# Altium footprint library ATMEGA328P-AU.PcbLib: 3 footprints
Each footprint in its own frame and in the unit in brackets; x right, y up, seen from the top. Pads: shape width x height; smd on the part's side, far side on the other; paste and mask are expansions set on the pad; w line width, h text height; cw(c..) or ccw(c..) is an arc to the next point about the centre after c.
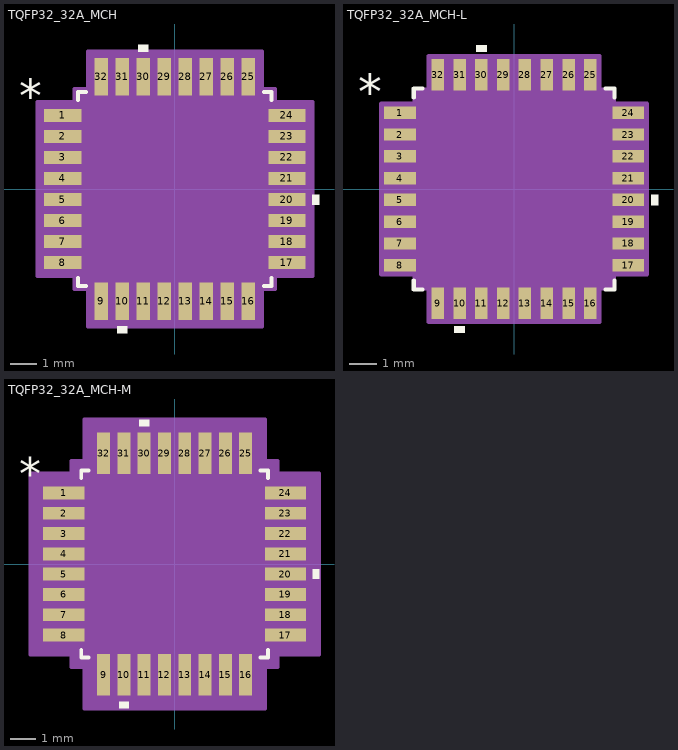
[diagram p0: the footprints below, top view; thin cyan lines are the x and y axes]

## TQFP32_32A_MCH [mil]
pads (32):
  rect 56x20 smd paste+0 mask+0: 1(-168,110.24) 2(-168,78.74) 3(-168,47.24) 4(-168,15.75) 5(-168,-15.75) 6(-168,-47.24) 7(-168,-78.74) 8(-168,-110.24) 17(168,-110.24) 18(168,-78.74) 19(168,-47.24) 20(168,-15.75) 21(168,15.75) 22(168,47.24) 23(168,78.74) 24(168,110.24)
  rect 20x56 smd paste+0 mask+0: 9(-110.24,-168) 10(-78.74,-168) 11(-47.24,-168) 12(-15.75,-168) 13(15.75,-168) 14(47.24,-168) 15(78.74,-168) 16(110.24,-168) 25(110.24,168) 26(78.74,168) 27(47.24,168) 28(15.75,168) 29(-15.75,168) 30(-47.24,168) 31(-78.74,168) 32(-110.24,168)
Top Overlay:
  region: -71.24,-206 -86.24,-206 -86.24,-216 -71.24,-216
  region: 206,-8.25 216,-8.25 216,-23.25 206,-23.25
  region: -39.74,206 -54.74,206 -54.74,216 -39.74,216
  lines w6: -145,-133.34 -145,-145 -133.34,-145 ; -145,133.34 -145,145 -133.34,145 ; 133.34,-145 145,-145 145,-133.34 ; 133.34,145 145,145 145,133.34
  text "*" at -233.5,115.98 h50
Mechanical 13:
  lines w1: -140,90 -90,140 ; -182,-119.24 -182,-101.24 -140,-101.24 -140,-119.24 -182,-119.24 ; -182,-87.74 -182,-69.74 -140,-69.74 -140,-87.74 -182,-87.74 ; -182,-56.24 -182,-38.24 -140,-38.24 -140,-56.24 -182,-56.24 ; -182,-24.75 -182,-6.75 -140,-6.75 -140,-24.75 -182,-24.75 ; -182,6.75 -182,24.75 -140,24.75 -140,6.75 -182,6.75 ; -182,38.24 -182,56.24 -140,56.24 -140,38.24 -182,38.24 ; -182,69.74 -182,87.74 -140,87.74 -140,69.74 -182,69.74 ; -182,101.24 -182,119.24 -140,119.24 -140,101.24 -182,101.24 ; -140,-140 -140,140 140,140 140,-140 -140,-140 ; -119.24,-182 -119.24,-140 -101.24,-140 -101.24,-182 -119.24,-182 ; -119.24,140 -101.24,140 -101.24,182 -119.24,182 -119.24,140 ; -87.74,-182 -87.74,-140 -69.74,-140 -69.74,-182 -87.74,-182 ; -87.74,140 -69.74,140 -69.74,182 -87.74,182 -87.74,140 ; -56.24,-182 -56.24,-140 -38.24,-140 -38.24,-182 -56.24,-182 ; -56.24,140 -38.24,140 -38.24,182 -56.24,182 -56.24,140 ; -24.75,-182 -24.75,-140 -6.75,-140 -6.75,-182 -24.75,-182 ; -24.75,140 -6.75,140 -6.75,182 -24.75,182 -24.75,140 ; 6.75,-182 6.75,-140 24.75,-140 24.75,-182 6.75,-182 ; 6.75,140 24.75,140 24.75,182 6.75,182 6.75,140 ; 38.24,-182 38.24,-140 56.24,-140 56.24,-182 38.24,-182 ; 38.24,140 56.24,140 56.24,182 38.24,182 38.24,140 ; 69.74,-182 69.74,-140 87.74,-140 87.74,-182 69.74,-182 ; 69.74,140 87.74,140 87.74,182 69.74,182 69.74,140 ; 101.24,-182 101.24,-140 119.24,-140 119.24,-182 101.24,-182 ; 101.24,140 119.24,140 119.24,182 101.24,182 101.24,140 ; 140,-119.24 140,-101.24 182,-101.24 182,-119.24 140,-119.24 ; 140,-87.74 140,-69.74 182,-69.74 182,-87.74 140,-87.74 ; 140,-56.24 140,-38.24 182,-38.24 182,-56.24 140,-56.24 ; 140,-24.75 140,-6.75 182,-6.75 182,-24.75 140,-24.75 ; 140,6.75 140,24.75 182,24.75 182,6.75 140,6.75 ; 140,38.24 140,56.24 182,56.24 182,38.24 140,38.24 ; 140,69.74 140,87.74 182,87.74 182,69.74 140,69.74 ; 140,101.24 140,119.24 182,119.24 182,101.24 140,101.24
  text "*" at -137.5,100.98 h50
Mechanical 15:
  region: -130.24,-150 -150,-150 -150,-130.24 -206,-130.24 -206,130.24 -150,130.24 -150,150 -130.24,150 -130.24,206 130.24,206 130.24,150 150,150 150,130.24 206,130.24 206,-130.24 150,-130.24 150,-150 130.24,-150 130.24,-206 -130.24,-206
  lines w6: -206,-130.24 -150,-130.24 -150,-150 -130.24,-150 -130.24,-206 130.24,-206 130.24,-150 150,-150 150,-130.24 206,-130.24 206,130.24 150,130.24 150,150 130.24,150 130.24,206 -130.24,206 -130.24,150 -150,150 -150,130.24 -206,130.24 -206,-130.24
3D body "TQFP32_32A_MCH.step": height 47.09, standoff 0, extent -182.01,-182.01 182.01,182.01

## TQFP32_32A_MCH-L [mil]
pads (32):
  rect 46x18 smd paste+0 mask+0: 1(-165,110.24) 2(-165,78.74) 3(-165,47.24) 4(-165,15.75) 5(-165,-15.75) 6(-165,-47.24) 7(-165,-78.74) 8(-165,-110.24) 17(165,-110.24) 18(165,-78.74) 19(165,-47.24) 20(165,-15.75) 21(165,15.75) 22(165,47.24) 23(165,78.74) 24(165,110.24)
  rect 18x46 smd paste+0 mask+0: 9(-110.24,-165) 10(-78.74,-165) 11(-47.24,-165) 12(-15.75,-165) 13(15.75,-165) 14(47.24,-165) 15(78.74,-165) 16(110.24,-165) 25(110.24,165) 26(78.74,165) 27(47.24,165) 28(15.75,165) 29(-15.75,165) 30(-47.24,165) 31(-78.74,165) 32(-110.24,165)
Top Overlay:
  region: -71.24,-198 -86.24,-198 -86.24,-208 -71.24,-208
  region: 198,-8.25 208,-8.25 208,-23.25 198,-23.25
  region: -39.74,198 -54.74,198 -54.74,208 -39.74,208
  lines w6: -145,-132.34 -145,-145 -132.34,-145 ; -145,132.34 -145,145 -132.34,145 ; 132.34,-145 145,-145 145,-132.34 ; 132.34,145 145,145 145,132.34
  text "*" at -225.5,115.98 h50
Mechanical 13:
  lines w1: -140,90 -90,140 ; -182,-119.24 -182,-101.24 -140,-101.24 -140,-119.24 -182,-119.24 ; -182,-87.74 -182,-69.74 -140,-69.74 -140,-87.74 -182,-87.74 ; -182,-56.24 -182,-38.24 -140,-38.24 -140,-56.24 -182,-56.24 ; -182,-24.75 -182,-6.75 -140,-6.75 -140,-24.75 -182,-24.75 ; -182,6.75 -182,24.75 -140,24.75 -140,6.75 -182,6.75 ; -182,38.24 -182,56.24 -140,56.24 -140,38.24 -182,38.24 ; -182,69.74 -182,87.74 -140,87.74 -140,69.74 -182,69.74 ; -182,101.24 -182,119.24 -140,119.24 -140,101.24 -182,101.24 ; -140,-140 -140,140 140,140 140,-140 -140,-140 ; -119.24,-182 -119.24,-140 -101.24,-140 -101.24,-182 -119.24,-182 ; -119.24,140 -101.24,140 -101.24,182 -119.24,182 -119.24,140 ; -87.74,-182 -87.74,-140 -69.74,-140 -69.74,-182 -87.74,-182 ; -87.74,140 -69.74,140 -69.74,182 -87.74,182 -87.74,140 ; -56.24,-182 -56.24,-140 -38.24,-140 -38.24,-182 -56.24,-182 ; -56.24,140 -38.24,140 -38.24,182 -56.24,182 -56.24,140 ; -24.75,-182 -24.75,-140 -6.75,-140 -6.75,-182 -24.75,-182 ; -24.75,140 -6.75,140 -6.75,182 -24.75,182 -24.75,140 ; 6.75,-182 6.75,-140 24.75,-140 24.75,-182 6.75,-182 ; 6.75,140 24.75,140 24.75,182 6.75,182 6.75,140 ; 38.24,-182 38.24,-140 56.24,-140 56.24,-182 38.24,-182 ; 38.24,140 56.24,140 56.24,182 38.24,182 38.24,140 ; 69.74,-182 69.74,-140 87.74,-140 87.74,-182 69.74,-182 ; 69.74,140 87.74,140 87.74,182 69.74,182 69.74,140 ; 101.24,-182 101.24,-140 119.24,-140 119.24,-182 101.24,-182 ; 101.24,140 119.24,140 119.24,182 101.24,182 101.24,140 ; 140,-119.24 140,-101.24 182,-101.24 182,-119.24 140,-119.24 ; 140,-87.74 140,-69.74 182,-69.74 182,-87.74 140,-87.74 ; 140,-56.24 140,-38.24 182,-38.24 182,-56.24 140,-56.24 ; 140,-24.75 140,-6.75 182,-6.75 182,-24.75 140,-24.75 ; 140,6.75 140,24.75 182,24.75 182,6.75 140,6.75 ; 140,38.24 140,56.24 182,56.24 182,38.24 140,38.24 ; 140,69.74 140,87.74 182,87.74 182,69.74 140,69.74 ; 140,101.24 140,119.24 182,119.24 182,101.24 140,101.24
  text "*" at -137.5,100.98 h50
Mechanical 15:
  region: -123.24,-144 -144,-144 -144,-123.24 -192,-123.24 -192,123.24 -144,123.24 -144,144 -123.24,144 -123.24,192 123.24,192 123.24,144 144,144 144,123.24 192,123.24 192,-123.24 144,-123.24 144,-144 123.24,-144 123.24,-192 -123.24,-192
  lines w6: -192,-123.24 -144,-123.24 -144,-144 -123.24,-144 -123.24,-192 123.24,-192 123.24,-144 144,-144 144,-123.24 192,-123.24 192,123.24 144,123.24 144,144 123.24,144 123.24,192 -123.24,192 -123.24,144 -144,144 -144,123.24 -192,123.24 -192,-123.24
3D body "TQFP32_32A_MCH.step": height 47.09, standoff 0, extent -182.01,-182.01 182.01,182.01

## TQFP32_32A_MCH-M [mil]
pads (32):
  rect 64x20 smd paste+0 mask+0: 1(-172,110.24) 2(-172,78.74) 3(-172,47.24) 4(-172,15.75) 5(-172,-15.75) 6(-172,-47.24) 7(-172,-78.74) 8(-172,-110.24) 17(172,-110.24) 18(172,-78.74) 19(172,-47.24) 20(172,-15.75) 21(172,15.75) 22(172,47.24) 23(172,78.74) 24(172,110.24)
  rect 20x64 smd paste+0 mask+0: 9(-110.24,-172) 10(-78.74,-172) 11(-47.24,-172) 12(-15.75,-172) 13(15.75,-172) 14(47.24,-172) 15(78.74,-172) 16(110.24,-172) 25(110.24,172) 26(78.74,172) 27(47.24,172) 28(15.75,172) 29(-15.75,172) 30(-47.24,172) 31(-78.74,172) 32(-110.24,172)
Top Overlay:
  region: -71.24,-214 -86.24,-214 -86.24,-224 -71.24,-224
  region: 214,-8.25 224,-8.25 224,-23.25 214,-23.25
  region: -39.74,214 -54.74,214 -54.74,224 -39.74,224
  lines w6: -145,-133.34 -145,-145 -133.34,-145 ; -145,133.34 -145,145 -133.34,145 ; 133.34,-145 145,-145 145,-133.34 ; 133.34,145 145,145 145,133.34
  text "*" at -241.5,115.98 h50
Mechanical 13:
  lines w1: -140,90 -90,140 ; -182,-119.24 -182,-101.24 -140,-101.24 -140,-119.24 -182,-119.24 ; -182,-87.74 -182,-69.74 -140,-69.74 -140,-87.74 -182,-87.74 ; -182,-56.24 -182,-38.24 -140,-38.24 -140,-56.24 -182,-56.24 ; -182,-24.75 -182,-6.75 -140,-6.75 -140,-24.75 -182,-24.75 ; -182,6.75 -182,24.75 -140,24.75 -140,6.75 -182,6.75 ; -182,38.24 -182,56.24 -140,56.24 -140,38.24 -182,38.24 ; -182,69.74 -182,87.74 -140,87.74 -140,69.74 -182,69.74 ; -182,101.24 -182,119.24 -140,119.24 -140,101.24 -182,101.24 ; -140,-140 -140,140 140,140 140,-140 -140,-140 ; -119.24,-182 -119.24,-140 -101.24,-140 -101.24,-182 -119.24,-182 ; -119.24,140 -101.24,140 -101.24,182 -119.24,182 -119.24,140 ; -87.74,-182 -87.74,-140 -69.74,-140 -69.74,-182 -87.74,-182 ; -87.74,140 -69.74,140 -69.74,182 -87.74,182 -87.74,140 ; -56.24,-182 -56.24,-140 -38.24,-140 -38.24,-182 -56.24,-182 ; -56.24,140 -38.24,140 -38.24,182 -56.24,182 -56.24,140 ; -24.75,-182 -24.75,-140 -6.75,-140 -6.75,-182 -24.75,-182 ; -24.75,140 -6.75,140 -6.75,182 -24.75,182 -24.75,140 ; 6.75,-182 6.75,-140 24.75,-140 24.75,-182 6.75,-182 ; 6.75,140 24.75,140 24.75,182 6.75,182 6.75,140 ; 38.24,-182 38.24,-140 56.24,-140 56.24,-182 38.24,-182 ; 38.24,140 56.24,140 56.24,182 38.24,182 38.24,140 ; 69.74,-182 69.74,-140 87.74,-140 87.74,-182 69.74,-182 ; 69.74,140 87.74,140 87.74,182 69.74,182 69.74,140 ; 101.24,-182 101.24,-140 119.24,-140 119.24,-182 101.24,-182 ; 101.24,140 119.24,140 119.24,182 101.24,182 101.24,140 ; 140,-119.24 140,-101.24 182,-101.24 182,-119.24 140,-119.24 ; 140,-87.74 140,-69.74 182,-69.74 182,-87.74 140,-87.74 ; 140,-56.24 140,-38.24 182,-38.24 182,-56.24 140,-56.24 ; 140,-24.75 140,-6.75 182,-6.75 182,-24.75 140,-24.75 ; 140,6.75 140,24.75 182,24.75 182,6.75 140,6.75 ; 140,38.24 140,56.24 182,56.24 182,38.24 140,38.24 ; 140,69.74 140,87.74 182,87.74 182,69.74 140,69.74 ; 140,101.24 140,119.24 182,119.24 182,101.24 140,101.24
  text "*" at -137.5,100.98 h50
Mechanical 15:
  region: -140.24,-160 -160,-160 -160,-140.24 -224,-140.24 -224,140.24 -160,140.24 -160,160 -140.24,160 -140.24,224 140.24,224 140.24,160 160,160 160,140.24 224,140.24 224,-140.24 160,-140.24 160,-160 140.24,-160 140.24,-224 -140.24,-224
  lines w6: -224,-140.24 -160,-140.24 -160,-160 -140.24,-160 -140.24,-224 140.24,-224 140.24,-160 160,-160 160,-140.24 224,-140.24 224,140.24 160,140.24 160,160 140.24,160 140.24,224 -140.24,224 -140.24,160 -160,160 -160,140.24 -224,140.24 -224,-140.24
3D body "TQFP32_32A_MCH.step": height 47.09, standoff 0, extent -182.01,-182.01 182.01,182.01